# EAGLE library part ESP32-WROVER-E_M213EH2864PH3Q0 (library ESP32)
WiFi Modules (802.11) SMD Module ESP32-D0WD-V3, 3.3V 64Mbit PSRAM, 16 MB SPI flash, PCB Antenna Source: Datasheet <https://www.mouser.in/datasheet/2/891/esp32-wrover-e_esp32-wrover-ie_datasheet_en-1855913.pdf>
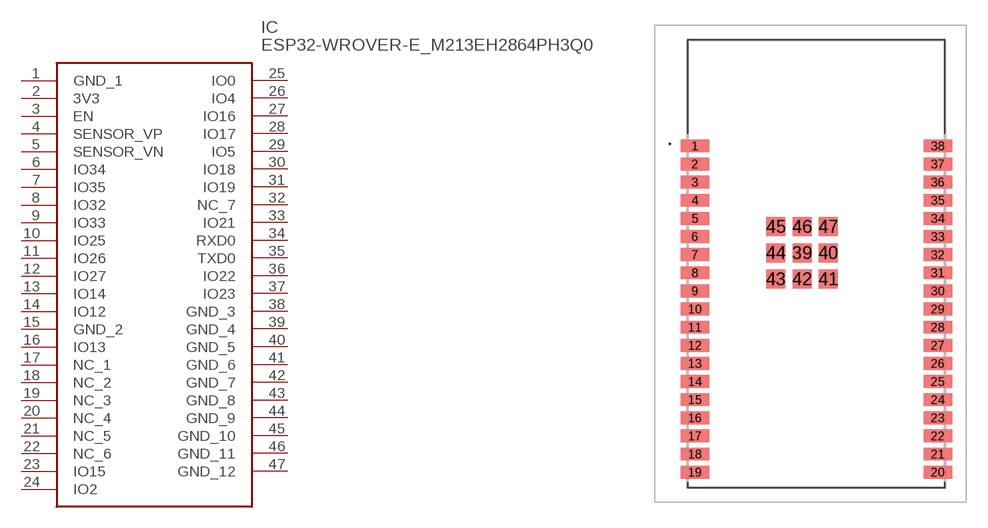
[diagram p0: symbol with the pads of ESP32WROVEREM213EH2864PH3Q0; footprint ESP32WROVEREM213EH2864PH3Q0]

Designator prefix IC

## ESP32-WROVER-E_M213EH2864PH3Q0 (Description: WiFi Modules (802.11) SMD Module ESP32-D0WD-V3, 3.3V 64Mbit PSRAM, 16 MB SPI flash, PCB Antenna; Height: 3.45mm; Manufacturer_Name: Espressif Systems; Manufacturer_Part_Number: ESP32-WROVER-E(M213EH2864PH3Q0); Mouser_Part_Number: 356-ESP32WRVE22864PC; Mouser_Price-Stock: https://www.mouser.co.uk/ProductDetail/Espressif-Systems/ESP32-WROVER-EM213EH2864PH3Q0?qs=vmHwEFxEFR8kG00CaGIvFQ%3D%3D)  [ESP32WROVEREM213EH2864PH3Q0]
1  GND_1
2  3V3
3  EN
4  SENSOR_VP
5  SENSOR_VN
6  IO34
7  IO35
8  IO32
9  IO33
10  IO25
11  IO26
12  IO27
13  IO14
14  IO12
15  GND_2
16  IO13
17  NC_1
18  NC_2
19  NC_3
20  NC_4
21  NC_5
22  NC_6
23  IO15
24  IO2
25  IO0
26  IO4
27  IO16
28  IO17
29  IO5
30  IO18
31  IO19
32  NC_7
33  IO21
34  RXD0
35  TXD0
36  IO22
37  IO23
38  GND_3
39  GND_4
40  GND_5
41  GND_6
42  GND_7
43  GND_8
44  GND_9
45  GND_10
46  GND_11
47  GND_12

## Footprint ESP32WROVEREM213EH2864PH3Q0 (pad centres in mm)
ESP32-WROVER-E(M213EH2864PH3Q0)-2
smd 2 x 0.9: 1 -8.5,23.96; 2 -8.5,22.69; 3 -8.5,21.42; 4 -8.5,20.15; 5 -8.5,18.88; 6 -8.5,17.61; 7 -8.5,16.34; 8 -8.5,15.07; 9 -8.5,13.8; 10 -8.5,12.53; 11 -8.5,11.26; 12 -8.5,9.99; 13 -8.5,8.72; 14 -8.5,7.45; 15 -8.5,6.18; 16 -8.5,4.91; 17 -8.5,3.64; 18 -8.5,2.37; 19 -8.5,1.1; 20 8.5,1.1; 21 8.5,2.37; 22 8.5,3.64; 23 8.5,4.91; 24 8.5,6.18; 25 8.5,7.45; 26 8.5,8.72; 27 8.5,9.99; 28 8.5,11.26; 29 8.5,12.53; 30 8.5,13.8; 31 8.5,15.07; 32 8.5,16.34; 33 8.5,17.61; 34 8.5,18.88; 35 8.5,20.15; 36 8.5,21.42; 37 8.5,22.69; 38 8.5,23.96
smd 1.33 x 1.33: 39 -1,16.46; 40 0.835,16.46; 41 0.835,14.625; 42 -1,14.625; 43 -2.835,14.625; 44 -2.835,16.46; 45 -2.835,18.295; 46 -1,18.295; 47 0.835,18.295